# EAGLE library part AD7376 (library fcounter)
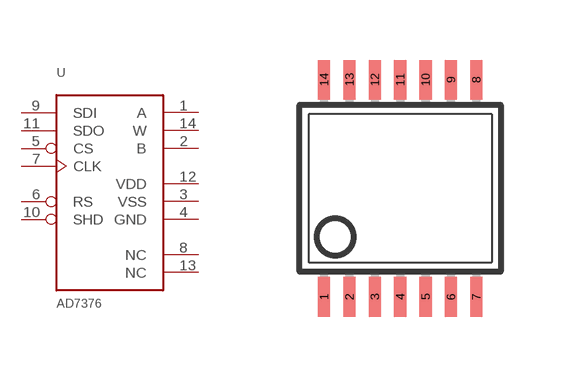
[diagram p7: symbol with the pads of TSSOP14; footprint TSSOP14]

Designator prefix U

## AD7376  [TSSOP14]
1  A
2  B
3  VSS  pwr
4  GND  pwr
5  CS  in
6  RS  in
7  CLK  in
8  NC  nc
9  SDI  in
10  SHD  in
11  SDO  out
12  VDD  pwr
13  NC  nc
14  W

## Footprint TSSOP14 (pad centres in mm)
smd 0.305 x 0.991: 1 -1.905,-2.718; 2 -1.27,-2.718; 3 -0.635,-2.718; 4 0,-2.718; 5 0.635,-2.718; 6 1.27,-2.718; 7 1.905,-2.718; 8 1.905,2.718; 9 1.27,2.718; 10 0.635,2.718; 11 0,2.718; 12 -0.635,2.718; 13 -1.27,2.718; 14 -1.905,2.718